# Altium footprint library 01x06-smd-pads-1mm-pitch.PcbLib: 1 footprints
Each footprint in its own frame and in the unit in brackets; x right, y up, seen from the top. Pads: shape width x height; smd on the part's side, far side on the other; paste and mask are expansions set on the pad; w line width, h text height; cw(c..) or ccw(c..) is an arc to the next point about the centre after c.
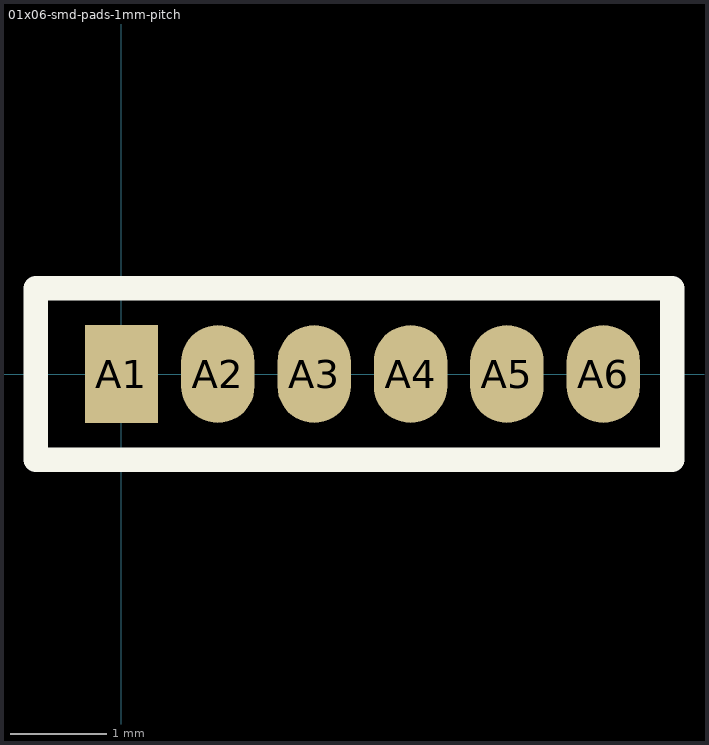
[diagram p0: the footprint, top view; thin cyan lines are the x and y axes]

## 01x06-smd-pads-1mm-pitch [mil]
pads (6):
  rect 30x40 smd: A1(0,0)
  oval 30x40 smd: A2(39.37,0) A3(78.74,0) A4(118.11,0) A5(157.48,0) A6(196.85,0)
Top Overlay:
  lines w10: -35,-35 -35,35 -25,35 220,35 225,35 225,-35 -25,-35 -35,-35